# Altium schematic symbol library jlcpcb_2025_04_ferrites_extended_1206.schlib: 308 symbols (part 5 of 6)
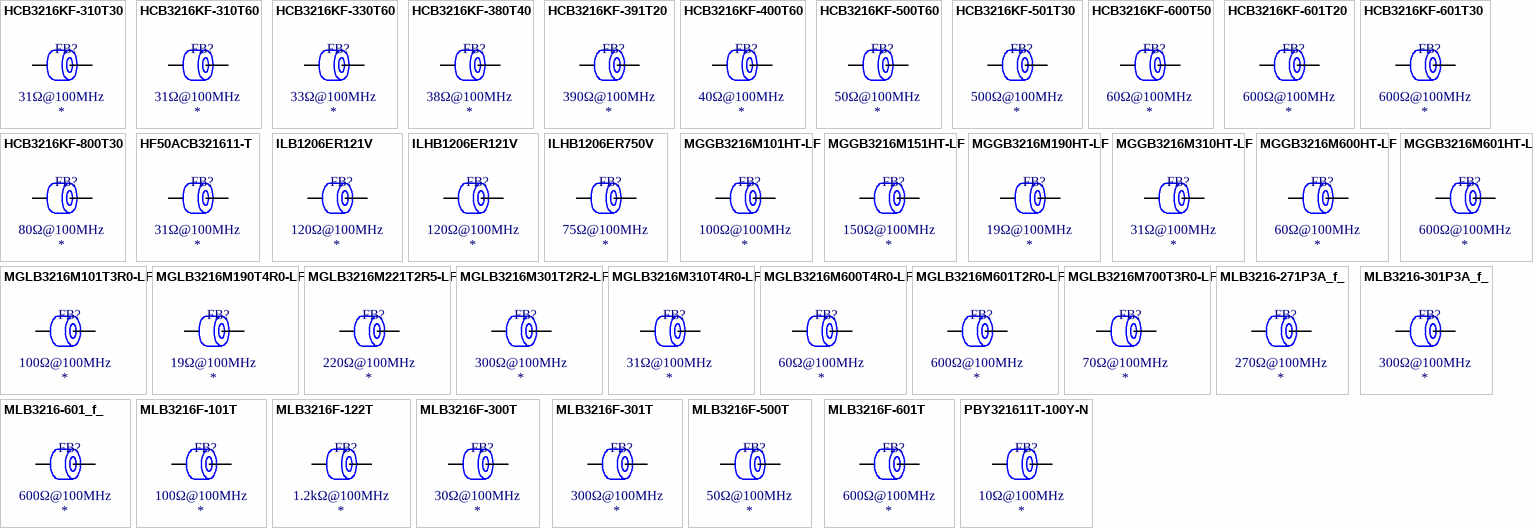
[diagram p11: symbols HCB3216KF-310T30 to PBY321611T-100Y-N]

## MGGB3216M601HT-LF
designator FB?  Impedance @ Frequency: 600Ω@100MHz
Ferrite, 600Ω@100MHz, ±25%, 0.3Ω, 600mA, SMD 1206; Manufacturer: microgate; Manufacturer Part Number: MGGB3216M601HT-LF; Package Size: 1206; JLCPCB Basic Part: No; JLCPCB Part Number: C281191; Supplier 1: LCSC; Category: Ferrite Beads; Supplier Part Number 1: C281191; Tolerance: ±25%; Rated Current: 600mA; DC Resistance: 0.3Ω; RoHS: Yes; ComponentLink1Description: Datasheet; ComponentLink1URL: https://wmsc.lcsc.com/wmsc/upload/file/pdf/v2/lcsc/2304140030_microgate-MGGB3216M601HT-LF_C281191.pdf; ComponentLink2Description: JLCPCB Part URL; ComponentLink2URL: https://jlcpcb.com/partdetail/C281191; ComponentLink3Description: LCSC Part URL; ComponentLink3URL: https://lcsc.com/product-detail/Ferrite-Beads_microgate-microgate-MGGB3216M601HT-LF_C281191.html
footprint FB-1206 (1206 (3216M) Ferrite)
pins: 1, 2

## MGLB3216M101T3R0-LF
designator FB?  Impedance @ Frequency: 100Ω@100MHz
Ferrite, 100Ω@100MHz, ±25%, 3A, SMD 1206; Manufacturer: microgate; Manufacturer Part Number: MGLB3216M101T3R0-LF; Package Size: 1206; JLCPCB Basic Part: No; JLCPCB Part Number: C281221; Supplier 1: LCSC; Category: Ferrite Beads; Supplier Part Number 1: C281221; Tolerance: ±25%; Rated Current: 3A; RoHS: Yes; ComponentLink1Description: Datasheet; ComponentLink1URL: https://wmsc.lcsc.com/wmsc/upload/file/pdf/v2/lcsc/2304140030_microgate-MGLB3216M101T3R0-LF_C281221.pdf; ComponentLink2Description: JLCPCB Part URL; ComponentLink2URL: https://jlcpcb.com/partdetail/C281221; ComponentLink3Description: LCSC Part URL; ComponentLink3URL: https://lcsc.com/product-detail/Ferrite-Beads_microgate-microgate-MGLB3216M101T3R0-LF_C281221.html
pins: 1, 2

## MGLB3216M190T4R0-LF
designator FB?  Impedance @ Frequency: 19Ω@100MHz
Ferrite, 19Ω@100MHz, ±25%, 20mΩ, 4A, SMD 1206; Manufacturer: microgate; Manufacturer Part Number: MGLB3216M190T4R0-LF; Package Size: 1206; JLCPCB Basic Part: No; JLCPCB Part Number: C281227; Supplier 1: LCSC; Category: Ferrite Beads; Supplier Part Number 1: C281227; Tolerance: ±25%; Rated Current: 4A; DC Resistance: 20mΩ; RoHS: Yes; ComponentLink1Description: Datasheet; ComponentLink1URL: https://wmsc.lcsc.com/wmsc/upload/file/pdf/v2/lcsc/2304140030_microgate-MGLB3216M190T4R0-LF_C281227.pdf; ComponentLink2Description: JLCPCB Part URL; ComponentLink2URL: https://jlcpcb.com/partdetail/C281227; ComponentLink3Description: LCSC Part URL; ComponentLink3URL: https://lcsc.com/product-detail/Ferrite-Beads_microgate-microgate-MGLB3216M190T4R0-LF_C281227.html
footprint FB-1206 (1206 (3216M) Ferrite)
pins: 1, 2

## MGLB3216M221T2R5-LF
designator FB?  Impedance @ Frequency: 220Ω@100MHz
Ferrite, 220Ω@100MHz, ±25%, 100mΩ, 2.5A, SMD 1206; Manufacturer: microgate; Manufacturer Part Number: MGLB3216M221T2R5-LF; Package Size: 1206; JLCPCB Basic Part: No; JLCPCB Part Number: C281229; Supplier 1: LCSC; Category: Ferrite Beads; Supplier Part Number 1: C281229; Tolerance: ±25%; Rated Current: 2.5A; DC Resistance: 100mΩ; RoHS: Yes; ComponentLink1Description: Datasheet; ComponentLink1URL: https://wmsc.lcsc.com/wmsc/upload/file/pdf/v2/lcsc/2304140030_microgate-MGLB3216M221T2R5-LF_C281229.pdf; ComponentLink2Description: JLCPCB Part URL; ComponentLink2URL: https://jlcpcb.com/partdetail/C281229; ComponentLink3Description: LCSC Part URL; ComponentLink3URL: https://lcsc.com/product-detail/Ferrite-Beads_microgate-microgate-MGLB3216M221T2R5-LF_C281229.html
footprint FB-1206 (1206 (3216M) Ferrite)
pins: 1, 2

## MGLB3216M301T2R2-LF
designator FB?  Impedance @ Frequency: 300Ω@100MHz
Ferrite, 300Ω@100MHz, ±25%, 150mΩ, 2.2A, SMD 1206; Manufacturer: microgate; Manufacturer Part Number: MGLB3216M301T2R2-LF; Package Size: 1206; JLCPCB Basic Part: No; JLCPCB Part Number: C281231; Supplier 1: LCSC; Category: Ferrite Beads; Supplier Part Number 1: C281231; Tolerance: ±25%; Rated Current: 2.2A; DC Resistance: 150mΩ; RoHS: Yes; ComponentLink1Description: Datasheet; ComponentLink1URL: https://wmsc.lcsc.com/wmsc/upload/file/pdf/v2/lcsc/2304140030_microgate-MGLB3216M301T2R2-LF_C281231.pdf; ComponentLink2Description: JLCPCB Part URL; ComponentLink2URL: https://jlcpcb.com/partdetail/C281231; ComponentLink3Description: LCSC Part URL; ComponentLink3URL: https://lcsc.com/product-detail/Ferrite-Beads_microgate-microgate-MGLB3216M301T2R2-LF_C281231.html
footprint FB-1206 (1206 (3216M) Ferrite)
pins: 1, 2

## MGLB3216M310T4R0-LF
designator FB?  Impedance @ Frequency: 31Ω@100MHz
Ferrite, 31Ω@100MHz, ±25%, 20mΩ, 4A, SMD 1206; Manufacturer: microgate; Manufacturer Part Number: MGLB3216M310T4R0-LF; Package Size: 1206; JLCPCB Basic Part: No; JLCPCB Part Number: C281232; Supplier 1: LCSC; Category: Ferrite Beads; Supplier Part Number 1: C281232; Tolerance: ±25%; Rated Current: 4A; DC Resistance: 20mΩ; RoHS: Yes; ComponentLink1Description: Datasheet; ComponentLink1URL: https://wmsc.lcsc.com/wmsc/upload/file/pdf/v2/lcsc/2304140030_microgate-MGLB3216M310T4R0-LF_C281232.pdf; ComponentLink2Description: JLCPCB Part URL; ComponentLink2URL: https://jlcpcb.com/partdetail/C281232; ComponentLink3Description: LCSC Part URL; ComponentLink3URL: https://lcsc.com/product-detail/Ferrite-Beads_microgate-microgate-MGLB3216M310T4R0-LF_C281232.html
footprint FB-1206 (1206 (3216M) Ferrite)
pins: 1, 2

## MGLB3216M600T4R0-LF
designator FB?  Impedance @ Frequency: 60Ω@100MHz
Ferrite, 60Ω@100MHz, ±25%, 4A, SMD 1206; Manufacturer: microgate; Manufacturer Part Number: MGLB3216M600T4R0-LF; Package Size: 1206; JLCPCB Basic Part: No; JLCPCB Part Number: C281233; Supplier 1: LCSC; Category: Ferrite Beads; Supplier Part Number 1: C281233; Tolerance: ±25%; Rated Current: 4A; RoHS: Yes; ComponentLink1Description: Datasheet; ComponentLink1URL: https://wmsc.lcsc.com/wmsc/upload/file/pdf/v2/lcsc/2304140030_microgate-MGLB3216M600T4R0-LF_C281233.pdf; ComponentLink2Description: JLCPCB Part URL; ComponentLink2URL: https://jlcpcb.com/partdetail/C281233; ComponentLink3Description: LCSC Part URL; ComponentLink3URL: https://lcsc.com/product-detail/Ferrite-Beads_microgate-microgate-MGLB3216M600T4R0-LF_C281233.html
pins: 1, 2

## MGLB3216M601T2R0-LF
designator FB?  Impedance @ Frequency: 600Ω@100MHz
Ferrite, 600Ω@100MHz, ±25%, 2A, SMD 1206; Manufacturer: microgate; Manufacturer Part Number: MGLB3216M601T2R0-LF; Package Size: 1206; JLCPCB Basic Part: No; JLCPCB Part Number: C281234; Supplier 1: LCSC; Category: Ferrite Beads; Supplier Part Number 1: C281234; Tolerance: ±25%; Rated Current: 2A; RoHS: Yes; ComponentLink1Description: Datasheet; ComponentLink1URL: https://wmsc.lcsc.com/wmsc/upload/file/pdf/v2/lcsc/2304140030_microgate-MGLB3216M601T2R0-LF_C281234.pdf; ComponentLink2Description: JLCPCB Part URL; ComponentLink2URL: https://jlcpcb.com/partdetail/C281234; ComponentLink3Description: LCSC Part URL; ComponentLink3URL: https://lcsc.com/product-detail/Ferrite-Beads_microgate-microgate-MGLB3216M601T2R0-LF_C281234.html
pins: 1, 2

## MGLB3216M700T3R0-LF
designator FB?  Impedance @ Frequency: 70Ω@100MHz
Ferrite, 70Ω@100MHz, ±25%, 50mΩ, 3A, SMD 1206; Manufacturer: microgate; Manufacturer Part Number: MGLB3216M700T3R0-LF; Package Size: 1206; JLCPCB Basic Part: No; JLCPCB Part Number: C281235; Supplier 1: LCSC; Category: Ferrite Beads; Supplier Part Number 1: C281235; Tolerance: ±25%; Rated Current: 3A; DC Resistance: 50mΩ; RoHS: Yes; ComponentLink1Description: Datasheet; ComponentLink1URL: https://wmsc.lcsc.com/wmsc/upload/file/pdf/v2/lcsc/2304140030_microgate-MGLB3216M700T3R0-LF_C281235.pdf; ComponentLink2Description: JLCPCB Part URL; ComponentLink2URL: https://jlcpcb.com/partdetail/C281235; ComponentLink3Description: LCSC Part URL; ComponentLink3URL: https://lcsc.com/product-detail/Ferrite-Beads_microgate-microgate-MGLB3216M700T3R0-LF_C281235.html
footprint FB-1206 (1206 (3216M) Ferrite)
pins: 1, 2

## MLB3216-271P3A_f_
designator FB?  Impedance @ Frequency: 270Ω@100MHz
Ferrite, 270Ω@100MHz, ±25%, 200mΩ, 3A, SMD 1206; Manufacturer: Meled; Manufacturer Part Number: MLB3216-271P3A(f); Package Size: 1206; JLCPCB Basic Part: No; JLCPCB Part Number: C49049; Supplier 1: LCSC; Category: Ferrite Beads; Supplier Part Number 1: C49049; Tolerance: ±25%; Rated Current: 3A; DC Resistance: 200mΩ; RoHS: Yes; ComponentLink1Description: Datasheet; ComponentLink1URL: https://wmsc.lcsc.com/wmsc/upload/file/pdf/v2/lcsc/1811141732_MetalLions-MLB3216-271P3A-f_C49049.pdf; ComponentLink2Description: JLCPCB Part URL; ComponentLink2URL: https://jlcpcb.com/partdetail/C49049; ComponentLink3Description: LCSC Part URL; ComponentLink3URL: https://lcsc.com/product-detail/Ferrite-Beads_Meled-Meled-MLB3216-271P3Af_C49049.html
footprint FB-1206 (1206 (3216M) Ferrite)
pins: 1, 2

## MLB3216-301P3A_f_
designator FB?  Impedance @ Frequency: 300Ω@100MHz
Ferrite, 300Ω@100MHz, ±25%, 120mΩ, 3A, SMD 1206; Manufacturer: Meled; Manufacturer Part Number: MLB3216-301P3A(f); Package Size: 1206; JLCPCB Basic Part: No; JLCPCB Part Number: C29107; Supplier 1: LCSC; Category: Ferrite Beads; Supplier Part Number 1: C29107; Tolerance: ±25%; Rated Current: 3A; DC Resistance: 120mΩ; RoHS: Yes; ComponentLink1Description: Datasheet; ComponentLink1URL: https://wmsc.lcsc.com/wmsc/upload/file/pdf/v2/lcsc/1811141711_MetalLions-MLB3216-301P3A-f_C29107.pdf; ComponentLink2Description: JLCPCB Part URL; ComponentLink2URL: https://jlcpcb.com/partdetail/C29107; ComponentLink3Description: LCSC Part URL; ComponentLink3URL: https://lcsc.com/product-detail/Ferrite-Beads_Meled-Meled-MLB3216-301P3Af_C29107.html
footprint FB-1206 (1206 (3216M) Ferrite)
pins: 1, 2

## MLB3216-601_f_
designator FB?  Impedance @ Frequency: 600Ω@100MHz
Ferrite, 600Ω@100MHz, ±25%, 300mΩ, 500mA, SMD 1206; Manufacturer: Meled; Manufacturer Part Number: MLB3216-601(f); Package Size: 1206; JLCPCB Basic Part: No; JLCPCB Part Number: C1025; Supplier 1: LCSC; Category: Ferrite Beads; Supplier Part Number 1: C1025; Tolerance: ±25%; Rated Current: 500mA; DC Resistance: 300mΩ; RoHS: Yes; ComponentLink1Description: Datasheet; ComponentLink1URL: https://wmsc.lcsc.com/wmsc/upload/file/pdf/v2/lcsc/1809192211_MetalLions-MLB3216-601-f_C1025.pdf; ComponentLink2Description: JLCPCB Part URL; ComponentLink2URL: https://jlcpcb.com/partdetail/C1025; ComponentLink3Description: LCSC Part URL; ComponentLink3URL: https://lcsc.com/product-detail/Ferrite-Beads_Meled-Meled-MLB3216-601f_C1025.html
footprint FB-1206 (1206 (3216M) Ferrite)
pins: 1, 2

## MLB3216F-101T
designator FB?  Impedance @ Frequency: 100Ω@100MHz
Ferrite, 100Ω@100MHz, ±25%, SMD 1206; Manufacturer: Meled; Manufacturer Part Number: MLB3216F-101T; Package Size: 1206; JLCPCB Basic Part: No; JLCPCB Part Number: C2844611; Supplier 1: LCSC; Category: Ferrite Beads; Supplier Part Number 1: C2844611; Tolerance: ±25%; RoHS: Yes; ComponentLink1Description: Datasheet; ComponentLink1URL: https://wmsc.lcsc.com/wmsc/upload/file/pdf/v2/lcsc/2306021145_MetalLions-MLB3216F-101T_C2844611.pdf; ComponentLink2Description: JLCPCB Part URL; ComponentLink2URL: https://jlcpcb.com/partdetail/C2844611; ComponentLink3Description: LCSC Part URL; ComponentLink3URL: https://lcsc.com/product-detail/Ferrite-Beads_MetalLions-MetalLions-MLB3216F-101T_C2844611.html
pins: 1, 2

## MLB3216F-122T
designator FB?  Impedance @ Frequency: 1.2kΩ@100MHz
Ferrite, 1.2kΩ@100MHz, ±25%, 600mΩ, 300mA, SMD 1206; Manufacturer: Meled; Manufacturer Part Number: MLB3216F-122T; Package Size: 1206; JLCPCB Basic Part: No; JLCPCB Part Number: C2844623; Supplier 1: LCSC; Category: Ferrite Beads; Supplier Part Number 1: C2844623; Tolerance: ±25%; Rated Current: 300mA; DC Resistance: 600mΩ; RoHS: Yes; ComponentLink1Description: Datasheet; ComponentLink1URL: https://wmsc.lcsc.com/wmsc/upload/file/pdf/v2/lcsc/2306021145_MetalLions-MLB3216F-122T_C2844623.pdf; ComponentLink2Description: JLCPCB Part URL; ComponentLink2URL: https://jlcpcb.com/partdetail/C2844623; ComponentLink3Description: LCSC Part URL; ComponentLink3URL: https://lcsc.com/product-detail/Ferrite-Beads_MetalLions-MetalLions-MLB3216F-122T_C2844623.html
footprint FB-1206 (1206 (3216M) Ferrite)
pins: 1, 2

## MLB3216F-300T
designator FB?  Impedance @ Frequency: 30Ω@100MHz
Ferrite, 30Ω@100MHz, ±25%, SMD 1206; Manufacturer: Meled; Manufacturer Part Number: MLB3216F-300T; Package Size: 1206; JLCPCB Basic Part: No; JLCPCB Part Number: C2844605; Supplier 1: LCSC; Category: Ferrite Beads; Supplier Part Number 1: C2844605; Tolerance: ±25%; RoHS: Yes; ComponentLink1Description: Datasheet; ComponentLink1URL: https://wmsc.lcsc.com/wmsc/upload/file/pdf/v2/lcsc/2306021144_MetalLions-MLB3216F-300T_C2844605.pdf; ComponentLink2Description: JLCPCB Part URL; ComponentLink2URL: https://jlcpcb.com/partdetail/C2844605; ComponentLink3Description: LCSC Part URL; ComponentLink3URL: https://lcsc.com/product-detail/Ferrite-Beads_MetalLions-MetalLions-MLB3216F-300T_C2844605.html
pins: 1, 2

## MLB3216F-301T
designator FB?  Impedance @ Frequency: 300Ω@100MHz
Ferrite, 300Ω@100MHz, ±25%, 200mΩ, 600mA, SMD 1206; Manufacturer: Meled; Manufacturer Part Number: MLB3216F-301T; Package Size: 1206; JLCPCB Basic Part: No; JLCPCB Part Number: C2844616; Supplier 1: LCSC; Category: Ferrite Beads; Supplier Part Number 1: C2844616; Tolerance: ±25%; Rated Current: 600mA; DC Resistance: 200mΩ; RoHS: Yes; ComponentLink1Description: Datasheet; ComponentLink1URL: https://wmsc.lcsc.com/wmsc/upload/file/pdf/v2/lcsc/2306021145_MetalLions-MLB3216F-301T_C2844616.pdf; ComponentLink2Description: JLCPCB Part URL; ComponentLink2URL: https://jlcpcb.com/partdetail/C2844616; ComponentLink3Description: LCSC Part URL; ComponentLink3URL: https://lcsc.com/product-detail/Ferrite-Beads_MetalLions-MetalLions-MLB3216F-301T_C2844616.html
footprint FB-1206 (1206 (3216M) Ferrite)
pins: 1, 2

## MLB3216F-500T
designator FB?  Impedance @ Frequency: 50Ω@100MHz
Ferrite, 50Ω@100MHz, ±25%, SMD 1206; Manufacturer: Meled; Manufacturer Part Number: MLB3216F-500T; Package Size: 1206; JLCPCB Basic Part: No; JLCPCB Part Number: C2844607; Supplier 1: LCSC; Category: Ferrite Beads; Supplier Part Number 1: C2844607; Tolerance: ±25%; RoHS: Yes; ComponentLink1Description: Datasheet; ComponentLink1URL: https://wmsc.lcsc.com/wmsc/upload/file/pdf/v2/lcsc/2306021144_MetalLions-MLB3216F-500T_C2844607.pdf; ComponentLink2Description: JLCPCB Part URL; ComponentLink2URL: https://jlcpcb.com/partdetail/C2844607; ComponentLink3Description: LCSC Part URL; ComponentLink3URL: https://lcsc.com/product-detail/Ferrite-Beads_MetalLions-MetalLions-MLB3216F-500T_C2844607.html
pins: 1, 2

## MLB3216F-601T
designator FB?  Impedance @ Frequency: 600Ω@100MHz
Ferrite, 600Ω@100MHz, ±25%, 0.3Ω, 600mA, SMD 1206; Manufacturer: Meled; Manufacturer Part Number: MLB3216F-601T; Package Size: 1206; JLCPCB Basic Part: No; JLCPCB Part Number: C2844620; Supplier 1: LCSC; Category: Ferrite Beads; Supplier Part Number 1: C2844620; Tolerance: ±25%; Rated Current: 600mA; DC Resistance: 0.3Ω; RoHS: Yes; ComponentLink1Description: Datasheet; ComponentLink1URL: https://wmsc.lcsc.com/wmsc/upload/file/pdf/v2/lcsc/2306021145_MetalLions-MLB3216F-601T_C2844620.pdf; ComponentLink2Description: JLCPCB Part URL; ComponentLink2URL: https://jlcpcb.com/partdetail/C2844620; ComponentLink3Description: LCSC Part URL; ComponentLink3URL: https://lcsc.com/product-detail/Ferrite-Beads_MetalLions-MetalLions-MLB3216F-601T_C2844620.html
footprint FB-1206 (1206 (3216M) Ferrite)
pins: 1, 2

## PBY321611T-100Y-N
designator FB?  Impedance @ Frequency: 10Ω@100MHz
Ferrite, 10Ω@100MHz, ±25%, 0.015Ω, 6000mA, SMD 1206; Manufacturer: Chilisin Elec; Manufacturer Part Number: PBY321611T-100Y-N; Package Size: 1206; JLCPCB Basic Part: No; JLCPCB Part Number: C142052; Supplier 1: LCSC; Category: Ferrite Beads; Supplier Part Number 1: C142052; Tolerance: ±25%; Rated Current: 6000mA; DC Resistance: 0.015Ω; RoHS: Yes; ComponentLink1Description: Datasheet; ComponentLink1URL: https://wmsc.lcsc.com/wmsc/upload/file/pdf/v2/lcsc/2304140030_Chilisin-Elec-PBY321611T-100Y-N_C142052.pdf; ComponentLink2Description: JLCPCB Part URL; ComponentLink2URL: https://jlcpcb.com/partdetail/C142052; ComponentLink3Description: LCSC Part URL; ComponentLink3URL: https://lcsc.com/product-detail/Ferrite-Beads_Chilisin-Elec-Chilisin-Elec-PBY321611T-100Y-N_C142052.html
footprint FB-1206 (1206 (3216M) Ferrite)
pins: 1, 2

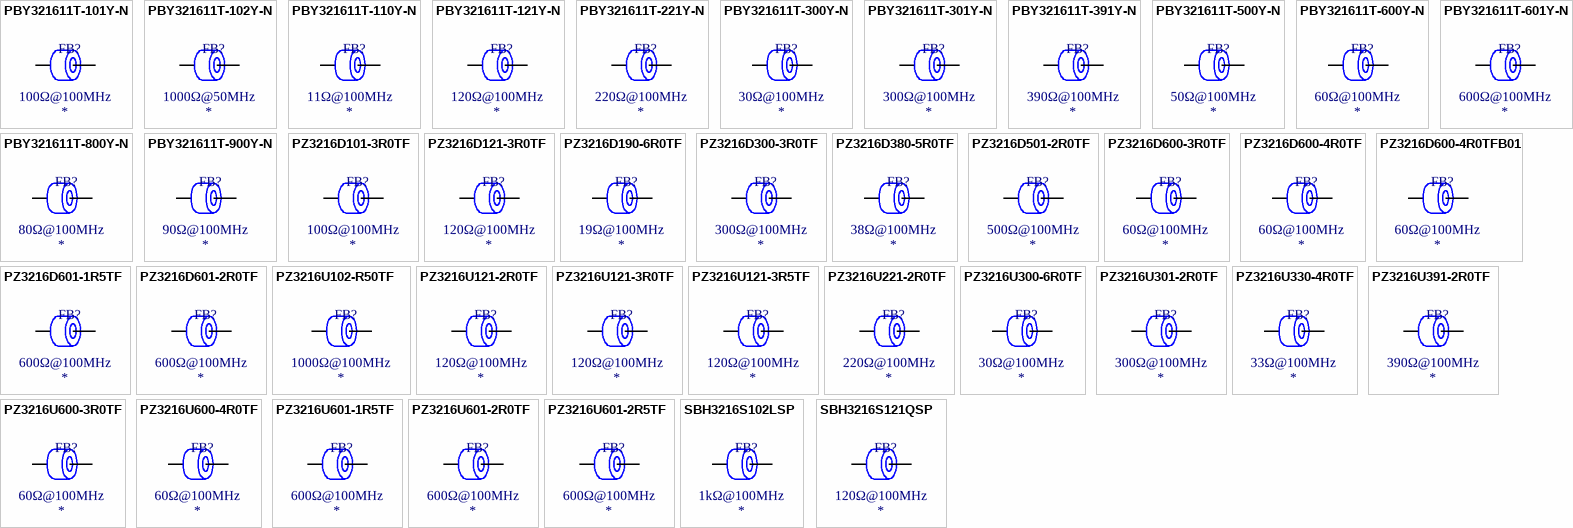
[diagram p6: symbols PBY321611T-101Y-N to SBH3216S121QSP]

## PBY321611T-101Y-N
designator FB?  Impedance @ Frequency: 100Ω@100MHz
Ferrite, 100Ω@100MHz, ±25%, 0.03Ω, 3000mA, SMD 1206; Manufacturer: Chilisin Elec; Manufacturer Part Number: PBY321611T-101Y-N; Package Size: 1206; JLCPCB Basic Part: No; JLCPCB Part Number: C142051; Supplier 1: LCSC; Category: Ferrite Beads; Supplier Part Number 1: C142051; Tolerance: ±25%; Rated Current: 3000mA; DC Resistance: 0.03Ω; RoHS: Yes; ComponentLink1Description: Datasheet; ComponentLink1URL: https://wmsc.lcsc.com/wmsc/upload/file/pdf/v2/lcsc/2304140030_Chilisin-Elec-PBY321611T-101Y-N_C142051.pdf; ComponentLink2Description: JLCPCB Part URL; ComponentLink2URL: https://jlcpcb.com/partdetail/C142051; ComponentLink3Description: LCSC Part URL; ComponentLink3URL: https://lcsc.com/product-detail/Ferrite-Beads_Chilisin-Elec-Chilisin-Elec-PBY321611T-101Y-N_C142051.html
footprint FB-1206 (1206 (3216M) Ferrite)
pins: 1, 2

## PBY321611T-102Y-N
designator FB?  Impedance @ Frequency: 1000Ω@50MHz
Ferrite, 1000Ω@50MHz, ±25%, 0.15Ω, 1200mA, SMD 1206; Manufacturer: Chilisin Elec; Manufacturer Part Number: PBY321611T-102Y-N; Package Size: 1206; JLCPCB Basic Part: No; JLCPCB Part Number: C142050; Supplier 1: LCSC; Category: Ferrite Beads; Supplier Part Number 1: C142050; Tolerance: ±25%; Rated Current: 1200mA; DC Resistance: 0.15Ω; RoHS: Yes; ComponentLink1Description: Datasheet; ComponentLink1URL: https://wmsc.lcsc.com/wmsc/upload/file/pdf/v2/lcsc/2304140030_Chilisin-Elec-PBY321611T-102Y-N_C142050.pdf; ComponentLink2Description: JLCPCB Part URL; ComponentLink2URL: https://jlcpcb.com/partdetail/C142050; ComponentLink3Description: LCSC Part URL; ComponentLink3URL: https://lcsc.com/product-detail/Ferrite-Beads_Chilisin-Elec-Chilisin-Elec-PBY321611T-102Y-N_C142050.html
footprint FB-1206 (1206 (3216M) Ferrite)
pins: 1, 2

## PBY321611T-110Y-N
designator FB?  Impedance @ Frequency: 11Ω@100MHz
Ferrite, 11Ω@100MHz, ±25%, SMD 1206; Manufacturer: Chilisin Elec; Manufacturer Part Number: PBY321611T-110Y-N; Package Size: 1206; JLCPCB Basic Part: No; JLCPCB Part Number: C365829; Supplier 1: LCSC; Category: Ferrite Beads; Supplier Part Number 1: C365829; Tolerance: ±25%; RoHS: Yes; ComponentLink1Description: Datasheet; ComponentLink1URL: https://wmsc.lcsc.com/wmsc/upload/file/pdf/v2/lcsc/2304140030_Chilisin-Elec-PBY321611T-110Y-N_C365829.pdf; ComponentLink2Description: JLCPCB Part URL; ComponentLink2URL: https://jlcpcb.com/partdetail/C365829; ComponentLink3Description: LCSC Part URL; ComponentLink3URL: https://lcsc.com/product-detail/Ferrite-Beads_Chilisin-Elec-Chilisin-Elec-PBY321611T-110Y-N_C365829.html
pins: 1, 2

## PBY321611T-121Y-N
designator FB?  Impedance @ Frequency: 120Ω@100MHz
Ferrite, 120Ω@100MHz, ±25%, 0.03Ω, 3000mA, SMD 1206; Manufacturer: Chilisin Elec; Manufacturer Part Number: PBY321611T-121Y-N; Package Size: 1206; JLCPCB Basic Part: No; JLCPCB Part Number: C142049; Supplier 1: LCSC; Category: Ferrite Beads; Supplier Part Number 1: C142049; Tolerance: ±25%; Rated Current: 3000mA; DC Resistance: 0.03Ω; RoHS: Yes; ComponentLink1Description: Datasheet; ComponentLink1URL: https://wmsc.lcsc.com/wmsc/upload/file/pdf/v2/lcsc/2304140030_Chilisin-Elec-PBY321611T-121Y-N_C142049.pdf; ComponentLink2Description: JLCPCB Part URL; ComponentLink2URL: https://jlcpcb.com/partdetail/C142049; ComponentLink3Description: LCSC Part URL; ComponentLink3URL: https://lcsc.com/product-detail/Ferrite-Beads_Chilisin-Elec-Chilisin-Elec-PBY321611T-121Y-N_C142049.html
footprint FB-1206 (1206 (3216M) Ferrite)
pins: 1, 2

## PBY321611T-221Y-N
designator FB?  Impedance @ Frequency: 220Ω@100MHz
Ferrite, 220Ω@100MHz, ±25%, 0.05Ω, 2000mA, SMD 1206; Manufacturer: Chilisin Elec; Manufacturer Part Number: PBY321611T-221Y-N; Package Size: 1206; JLCPCB Basic Part: No; JLCPCB Part Number: C142048; Supplier 1: LCSC; Category: Ferrite Beads; Supplier Part Number 1: C142048; Tolerance: ±25%; Rated Current: 2000mA; DC Resistance: 0.05Ω; RoHS: Yes; ComponentLink1Description: Datasheet; ComponentLink1URL: https://wmsc.lcsc.com/wmsc/upload/file/pdf/v2/lcsc/2304140030_Chilisin-Elec-PBY321611T-221Y-N_C142048.pdf; ComponentLink2Description: JLCPCB Part URL; ComponentLink2URL: https://jlcpcb.com/partdetail/C142048; ComponentLink3Description: LCSC Part URL; ComponentLink3URL: https://lcsc.com/product-detail/Ferrite-Beads_Chilisin-Elec-Chilisin-Elec-PBY321611T-221Y-N_C142048.html
footprint FB-1206 (1206 (3216M) Ferrite)
pins: 1, 2

## PBY321611T-300Y-N
designator FB?  Impedance @ Frequency: 30Ω@100MHz
Ferrite, 30Ω@100MHz, ±25%, 0.015Ω, 4000mA, SMD 1206; Manufacturer: Chilisin Elec; Manufacturer Part Number: PBY321611T-300Y-N; Package Size: 1206; JLCPCB Basic Part: No; JLCPCB Part Number: C142047; Supplier 1: LCSC; Category: Ferrite Beads; Supplier Part Number 1: C142047; Tolerance: ±25%; Rated Current: 4000mA; DC Resistance: 0.015Ω; RoHS: Yes; ComponentLink1Description: Datasheet; ComponentLink1URL: https://wmsc.lcsc.com/wmsc/upload/file/pdf/v2/lcsc/2304140030_Chilisin-Elec-PBY321611T-300Y-N_C142047.pdf; ComponentLink2Description: JLCPCB Part URL; ComponentLink2URL: https://jlcpcb.com/partdetail/C142047; ComponentLink3Description: LCSC Part URL; ComponentLink3URL: https://lcsc.com/product-detail/Ferrite-Beads_Chilisin-Elec-Chilisin-Elec-PBY321611T-300Y-N_C142047.html
footprint FB-1206 (1206 (3216M) Ferrite)
pins: 1, 2

## PBY321611T-301Y-N
designator FB?  Impedance @ Frequency: 300Ω@100MHz
Ferrite, 300Ω@100MHz, ±25%, 0.06Ω, 2000mA, SMD 1206; Manufacturer: Chilisin Elec; Manufacturer Part Number: PBY321611T-301Y-N; Package Size: 1206; JLCPCB Basic Part: No; JLCPCB Part Number: C142046; Supplier 1: LCSC; Category: Ferrite Beads; Supplier Part Number 1: C142046; Tolerance: ±25%; Rated Current: 2000mA; DC Resistance: 0.06Ω; RoHS: Yes; ComponentLink1Description: Datasheet; ComponentLink1URL: https://wmsc.lcsc.com/wmsc/upload/file/pdf/v2/lcsc/2304140030_Chilisin-Elec-PBY321611T-301Y-N_C142046.pdf; ComponentLink2Description: JLCPCB Part URL; ComponentLink2URL: https://jlcpcb.com/partdetail/C142046; ComponentLink3Description: LCSC Part URL; ComponentLink3URL: https://lcsc.com/product-detail/Ferrite-Beads_Chilisin-Elec-Chilisin-Elec-PBY321611T-301Y-N_C142046.html
footprint FB-1206 (1206 (3216M) Ferrite)
pins: 1, 2

## PBY321611T-391Y-N
designator FB?  Impedance @ Frequency: 390Ω@100MHz
Ferrite, 390Ω@100MHz, ±25%, SMD 1206; Manufacturer: Chilisin Elec; Manufacturer Part Number: PBY321611T-391Y-N; Package Size: 1206; JLCPCB Basic Part: No; JLCPCB Part Number: C280679; Supplier 1: LCSC; Category: Ferrite Beads; Supplier Part Number 1: C280679; Tolerance: ±25%; RoHS: Yes; ComponentLink1Description: Datasheet; ComponentLink1URL: https://wmsc.lcsc.com/wmsc/upload/file/pdf/v2/lcsc/2304140030_Chilisin-Elec-PBY321611T-391Y-N_C280679.pdf; ComponentLink2Description: JLCPCB Part URL; ComponentLink2URL: https://jlcpcb.com/partdetail/C280679; ComponentLink3Description: LCSC Part URL; ComponentLink3URL: https://lcsc.com/product-detail/Ferrite-Beads_Chilisin-Elec-Chilisin-Elec-PBY321611T-391Y-N_C280679.html
pins: 1, 2

## PBY321611T-500Y-N
designator FB?  Impedance @ Frequency: 50Ω@100MHz
Ferrite, 50Ω@100MHz, ±25%, SMD 1206; Manufacturer: Chilisin Elec; Manufacturer Part Number: PBY321611T-500Y-N; Package Size: 1206; JLCPCB Basic Part: No; JLCPCB Part Number: C142044; Supplier 1: LCSC; Category: Ferrite Beads; Supplier Part Number 1: C142044; Tolerance: ±25%; RoHS: Yes; ComponentLink1Description: Datasheet; ComponentLink1URL: https://wmsc.lcsc.com/wmsc/upload/file/pdf/v2/lcsc/2304140030_Chilisin-Elec-PBY321611T-500Y-N_C142044.pdf; ComponentLink2Description: JLCPCB Part URL; ComponentLink2URL: https://jlcpcb.com/partdetail/C142044; ComponentLink3Description: LCSC Part URL; ComponentLink3URL: https://lcsc.com/product-detail/Ferrite-Beads_Chilisin-Elec-Chilisin-Elec-PBY321611T-500Y-N_C142044.html
pins: 1, 2

## PBY321611T-600Y-N
designator FB?  Impedance @ Frequency: 60Ω@100MHz
Ferrite, 60Ω@100MHz, ±25%, 0.02Ω, 4000mA, SMD 1206; Manufacturer: Chilisin Elec; Manufacturer Part Number: PBY321611T-600Y-N; Package Size: 1206; JLCPCB Basic Part: No; JLCPCB Part Number: C142042; Supplier 1: LCSC; Category: Ferrite Beads; Supplier Part Number 1: C142042; Tolerance: ±25%; Rated Current: 4000mA; DC Resistance: 0.02Ω; RoHS: Yes; ComponentLink1Description: Datasheet; ComponentLink1URL: https://wmsc.lcsc.com/wmsc/upload/file/pdf/v2/lcsc/2304140030_Chilisin-Elec-PBY321611T-600Y-N_C142042.pdf; ComponentLink2Description: JLCPCB Part URL; ComponentLink2URL: https://jlcpcb.com/partdetail/C142042; ComponentLink3Description: LCSC Part URL; ComponentLink3URL: https://lcsc.com/product-detail/Ferrite-Beads_Chilisin-Elec-Chilisin-Elec-PBY321611T-600Y-N_C142042.html
footprint FB-1206 (1206 (3216M) Ferrite)
pins: 1, 2

## PBY321611T-601Y-N
designator FB?  Impedance @ Frequency: 600Ω@100MHz
Ferrite, 600Ω@100MHz, ±25%, 0.1Ω, 2000mA, SMD 1206; Manufacturer: Chilisin Elec; Manufacturer Part Number: PBY321611T-601Y-N; Package Size: 1206; JLCPCB Basic Part: No; JLCPCB Part Number: C108305; Supplier 1: LCSC; Category: Ferrite Beads; Supplier Part Number 1: C108305; Tolerance: ±25%; Rated Current: 2000mA; DC Resistance: 0.1Ω; RoHS: Yes; ComponentLink1Description: Datasheet; ComponentLink1URL: https://wmsc.lcsc.com/wmsc/upload/file/pdf/v2/lcsc/2304140030_Chilisin-Elec-PBY321611T-601Y-N_C108305.pdf; ComponentLink2Description: JLCPCB Part URL; ComponentLink2URL: https://jlcpcb.com/partdetail/C108305; ComponentLink3Description: LCSC Part URL; ComponentLink3URL: https://lcsc.com/product-detail/Ferrite-Beads_Chilisin-Elec-Chilisin-Elec-PBY321611T-601Y-N_C108305.html
footprint FB-1206 (1206 (3216M) Ferrite)
pins: 1, 2

## PBY321611T-800Y-N
designator FB?  Impedance @ Frequency: 80Ω@100MHz
Ferrite, 80Ω@100MHz, ±25%, SMD 1206; Manufacturer: Chilisin Elec; Manufacturer Part Number: PBY321611T-800Y-N; Package Size: 1206; JLCPCB Basic Part: No; JLCPCB Part Number: C142041; Supplier 1: LCSC; Category: Ferrite Beads; Supplier Part Number 1: C142041; Tolerance: ±25%; RoHS: Yes; ComponentLink1Description: Datasheet; ComponentLink1URL: https://wmsc.lcsc.com/wmsc/upload/file/pdf/v2/lcsc/2304140030_Chilisin-Elec-PBY321611T-800Y-N_C142041.pdf; ComponentLink2Description: JLCPCB Part URL; ComponentLink2URL: https://jlcpcb.com/partdetail/C142041; ComponentLink3Description: LCSC Part URL; ComponentLink3URL: https://lcsc.com/product-detail/Ferrite-Beads_Chilisin-Elec-Chilisin-Elec-PBY321611T-800Y-N_C142041.html
pins: 1, 2

## PBY321611T-900Y-N
designator FB?  Impedance @ Frequency: 90Ω@100MHz
Ferrite, 90Ω@100MHz, ±25%, SMD 1206; Manufacturer: Chilisin Elec; Manufacturer Part Number: PBY321611T-900Y-N; Package Size: 1206; JLCPCB Basic Part: No; JLCPCB Part Number: C142040; Supplier 1: LCSC; Category: Ferrite Beads; Supplier Part Number 1: C142040; Tolerance: ±25%; RoHS: Yes; ComponentLink1Description: Datasheet; ComponentLink1URL: https://wmsc.lcsc.com/wmsc/upload/file/pdf/v2/lcsc/2304140030_Chilisin-Elec-PBY321611T-900Y-N_C142040.pdf; ComponentLink2Description: JLCPCB Part URL; ComponentLink2URL: https://jlcpcb.com/partdetail/C142040; ComponentLink3Description: LCSC Part URL; ComponentLink3URL: https://lcsc.com/product-detail/Ferrite-Beads_Chilisin-Elec-Chilisin-Elec-PBY321611T-900Y-N_C142040.html
pins: 1, 2

## PZ3216D101-3R0TF
designator FB?  Impedance @ Frequency: 100Ω@100MHz
Ferrite, 100Ω@100MHz, ±25%, 3A, SMD 1206; Manufacturer: Sunlord; Manufacturer Part Number: PZ3216D101-3R0TF; Package Size: 1206; JLCPCB Basic Part: No; JLCPCB Part Number: C370089; Supplier 1: LCSC; Category: Ferrite Beads; Supplier Part Number 1: C370089; Tolerance: ±25%; Rated Current: 3A; RoHS: Yes; ComponentLink1Description: Datasheet; ComponentLink1URL: https://wmsc.lcsc.com/wmsc/upload/file/pdf/v2/lcsc/2310301641_Sunlord-PZ3216D101-3R0TF_C370089.pdf; ComponentLink2Description: JLCPCB Part URL; ComponentLink2URL: https://jlcpcb.com/partdetail/C370089; ComponentLink3Description: LCSC Part URL; ComponentLink3URL: https://lcsc.com/product-detail/Ferrite-Beads_Sunlord-Sunlord-PZ3216D101-3R0TF_C370089.html
pins: 1, 2

## PZ3216D121-3R0TF
designator FB?  Impedance @ Frequency: 120Ω@100MHz
Ferrite, 120Ω@100MHz, ±25%, 0.03Ω, 3000mA, SMD 1206; Manufacturer: Sunlord; Manufacturer Part Number: PZ3216D121-3R0TF; Package Size: 1206; JLCPCB Basic Part: No; JLCPCB Part Number: C98292; Supplier 1: LCSC; Category: Ferrite Beads; Supplier Part Number 1: C98292; Tolerance: ±25%; Rated Current: 3000mA; DC Resistance: 0.03Ω; RoHS: Yes; ComponentLink1Description: Datasheet; ComponentLink1URL: https://wmsc.lcsc.com/wmsc/upload/file/pdf/v2/lcsc/2310301641_Sunlord-PZ3216D121-3R0TF_C98292.pdf; ComponentLink2Description: JLCPCB Part URL; ComponentLink2URL: https://jlcpcb.com/partdetail/C98292; ComponentLink3Description: LCSC Part URL; ComponentLink3URL: https://lcsc.com/product-detail/Ferrite-Beads_Sunlord-Sunlord-PZ3216D121-3R0TF_C98292.html
footprint FB-1206 (1206 (3216M) Ferrite)
pins: 1, 2

## PZ3216D190-6R0TF
designator FB?  Impedance @ Frequency: 19Ω@100MHz
Ferrite, 19Ω@100MHz, ±25%, 0.01Ω, 6000mA, SMD 1206; Manufacturer: Sunlord; Manufacturer Part Number: PZ3216D190-6R0TF; Package Size: 1206; JLCPCB Basic Part: No; JLCPCB Part Number: C317630; Supplier 1: LCSC; Category: Ferrite Beads; Supplier Part Number 1: C317630; Tolerance: ±25%; Rated Current: 6000mA; DC Resistance: 0.01Ω; RoHS: Yes; ComponentLink1Description: Datasheet; ComponentLink1URL: https://wmsc.lcsc.com/wmsc/upload/file/pdf/v2/lcsc/2310301641_Sunlord-PZ3216D190-6R0TF_C317630.pdf; ComponentLink2Description: JLCPCB Part URL; ComponentLink2URL: https://jlcpcb.com/partdetail/C317630; ComponentLink3Description: LCSC Part URL; ComponentLink3URL: https://lcsc.com/product-detail/Ferrite-Beads_Sunlord-Sunlord-PZ3216D190-6R0TF_C317630.html
footprint FB-1206 (1206 (3216M) Ferrite)
pins: 1, 2

## PZ3216D300-3R0TF
designator FB?  Impedance @ Frequency: 300Ω@100MHz
Ferrite, 300Ω@100MHz, ±25%, 3A, SMD 1206; Manufacturer: Sunlord; Manufacturer Part Number: PZ3216D300-3R0TF; Package Size: 1206; JLCPCB Basic Part: No; JLCPCB Part Number: C370090; Supplier 1: LCSC; Category: Ferrite Beads; Supplier Part Number 1: C370090; Tolerance: ±25%; Rated Current: 3A; RoHS: Yes; ComponentLink1Description: Datasheet; ComponentLink1URL: https://wmsc.lcsc.com/wmsc/upload/file/pdf/v2/lcsc/2310301641_Sunlord-PZ3216D300-3R0TF_C370090.pdf; ComponentLink2Description: JLCPCB Part URL; ComponentLink2URL: https://jlcpcb.com/partdetail/C370090; ComponentLink3Description: LCSC Part URL; ComponentLink3URL: https://lcsc.com/product-detail/Ferrite-Beads_Sunlord-Sunlord-PZ3216D300-3R0TF_C370090.html
pins: 1, 2

## PZ3216D380-5R0TF
designator FB?  Impedance @ Frequency: 38Ω@100MHz
Ferrite, 38Ω@100MHz, ±25%, 0.015Ω, 5000mA, SMD 1206; Manufacturer: Sunlord; Manufacturer Part Number: PZ3216D380-5R0TF; Package Size: 1206; JLCPCB Basic Part: No; JLCPCB Part Number: C317631; Supplier 1: LCSC; Category: Ferrite Beads; Supplier Part Number 1: C317631; Tolerance: ±25%; Rated Current: 5000mA; DC Resistance: 0.015Ω; RoHS: Yes; ComponentLink1Description: Datasheet; ComponentLink1URL: https://wmsc.lcsc.com/wmsc/upload/file/pdf/v2/lcsc/2310301641_Sunlord-PZ3216D380-5R0TF_C317631.pdf; ComponentLink2Description: JLCPCB Part URL; ComponentLink2URL: https://jlcpcb.com/partdetail/C317631; ComponentLink3Description: LCSC Part URL; ComponentLink3URL: https://lcsc.com/product-detail/Ferrite-Beads_Sunlord-Sunlord-PZ3216D380-5R0TF_C317631.html
footprint FB-1206 (1206 (3216M) Ferrite)
pins: 1, 2

## PZ3216D501-2R0TF
designator FB?  Impedance @ Frequency: 500Ω@100MHz
Ferrite, 500Ω@100MHz, ±25%, 0.07Ω, 2000mA, SMD 1206; Manufacturer: Sunlord; Manufacturer Part Number: PZ3216D501-2R0TF; Package Size: 1206; JLCPCB Basic Part: No; JLCPCB Part Number: C317633; Supplier 1: LCSC; Category: Ferrite Beads; Supplier Part Number 1: C317633; Tolerance: ±25%; Rated Current: 2000mA; DC Resistance: 0.07Ω; RoHS: Yes; ComponentLink1Description: Datasheet; ComponentLink1URL: https://wmsc.lcsc.com/wmsc/upload/file/pdf/v2/lcsc/2310301641_Sunlord-PZ3216D501-2R0TF_C317633.pdf; ComponentLink2Description: JLCPCB Part URL; ComponentLink2URL: https://jlcpcb.com/partdetail/C317633; ComponentLink3Description: LCSC Part URL; ComponentLink3URL: https://lcsc.com/product-detail/Ferrite-Beads_Sunlord-Sunlord-PZ3216D501-2R0TF_C317633.html
footprint FB-1206 (1206 (3216M) Ferrite)
pins: 1, 2

## PZ3216D600-3R0TF
designator FB?  Impedance @ Frequency: 60Ω@100MHz
Ferrite, 60Ω@100MHz, ±25%, 3A, SMD 1206; Manufacturer: Sunlord; Manufacturer Part Number: PZ3216D600-3R0TF; Package Size: 1206; JLCPCB Basic Part: No; JLCPCB Part Number: C370091; Supplier 1: LCSC; Category: Ferrite Beads; Supplier Part Number 1: C370091; Tolerance: ±25%; Rated Current: 3A; RoHS: Yes; ComponentLink1Description: Datasheet; ComponentLink1URL: https://wmsc.lcsc.com/wmsc/upload/file/pdf/v2/lcsc/2310301641_Sunlord-PZ3216D600-3R0TF_C370091.pdf; ComponentLink2Description: JLCPCB Part URL; ComponentLink2URL: https://jlcpcb.com/partdetail/C370091; ComponentLink3Description: LCSC Part URL; ComponentLink3URL: https://lcsc.com/product-detail/Ferrite-Beads_Sunlord-Sunlord-PZ3216D600-3R0TF_C370091.html
pins: 1, 2

## PZ3216D600-4R0TF
designator FB?  Impedance @ Frequency: 60Ω@100MHz
Ferrite, 60Ω@100MHz, ±25%, 0.02Ω, 4000mA, SMD 1206; Manufacturer: Sunlord; Manufacturer Part Number: PZ3216D600-4R0TF; Package Size: 1206; JLCPCB Basic Part: No; JLCPCB Part Number: C317632; Supplier 1: LCSC; Category: Ferrite Beads; Supplier Part Number 1: C317632; Tolerance: ±25%; Rated Current: 4000mA; DC Resistance: 0.02Ω; RoHS: Yes; ComponentLink1Description: Datasheet; ComponentLink1URL: https://wmsc.lcsc.com/wmsc/upload/file/pdf/v2/lcsc/2310301641_Sunlord-PZ3216D600-4R0TF_C317632.pdf; ComponentLink2Description: JLCPCB Part URL; ComponentLink2URL: https://jlcpcb.com/partdetail/C317632; ComponentLink3Description: LCSC Part URL; ComponentLink3URL: https://lcsc.com/product-detail/Ferrite-Beads_Sunlord-Sunlord-PZ3216D600-4R0TF_C317632.html
footprint FB-1206 (1206 (3216M) Ferrite)
pins: 1, 2

## PZ3216D600-4R0TFB01
designator FB?  Impedance @ Frequency: 60Ω@100MHz
Ferrite, 60Ω@100MHz, ±25%, 4A, SMD 1206; Manufacturer: Sunlord; Manufacturer Part Number: PZ3216D600-4R0TFB01; Package Size: 1206; JLCPCB Basic Part: No; JLCPCB Part Number: C882634; Supplier 1: LCSC; Category: Ferrite Beads; Supplier Part Number 1: C882634; Tolerance: ±25%; Rated Current: 4A; RoHS: Yes; ComponentLink1Description: Datasheet; ComponentLink1URL: https://wmsc.lcsc.com/wmsc/upload/file/pdf/v2/lcsc/2310301641_Sunlord-PZ3216D600-4R0TFB01_C882634.pdf; ComponentLink2Description: JLCPCB Part URL; ComponentLink2URL: https://jlcpcb.com/partdetail/C882634; ComponentLink3Description: LCSC Part URL; ComponentLink3URL: https://lcsc.com/product-detail/Ferrite-Beads_Sunlord-Sunlord-PZ3216D600-4R0TFB01_C882634.html
pins: 1, 2

## PZ3216D601-1R5TF
designator FB?  Impedance @ Frequency: 600Ω@100MHz
Ferrite, 600Ω@100MHz, ±25%, 1.5A, SMD 1206; Manufacturer: Sunlord; Manufacturer Part Number: PZ3216D601-1R5TF; Package Size: 1206; JLCPCB Basic Part: No; JLCPCB Part Number: C370092; Supplier 1: LCSC; Category: Ferrite Beads; Supplier Part Number 1: C370092; Tolerance: ±25%; Rated Current: 1.5A; RoHS: Yes; ComponentLink1Description: Datasheet; ComponentLink1URL: https://wmsc.lcsc.com/wmsc/upload/file/pdf/v2/lcsc/2310301641_Sunlord-PZ3216D601-1R5TF_C370092.pdf; ComponentLink2Description: JLCPCB Part URL; ComponentLink2URL: https://jlcpcb.com/partdetail/C370092; ComponentLink3Description: LCSC Part URL; ComponentLink3URL: https://lcsc.com/product-detail/Ferrite-Beads_Sunlord-Sunlord-PZ3216D601-1R5TF_C370092.html
pins: 1, 2

## PZ3216D601-2R0TF
designator FB?  Impedance @ Frequency: 600Ω@100MHz
Ferrite, 600Ω@100MHz, ±25%, 0.07Ω, 2000mA, SMD 1206; Manufacturer: Sunlord; Manufacturer Part Number: PZ3216D601-2R0TF; Package Size: 1206; JLCPCB Basic Part: No; JLCPCB Part Number: C317634; Supplier 1: LCSC; Category: Ferrite Beads; Supplier Part Number 1: C317634; Tolerance: ±25%; Rated Current: 2000mA; DC Resistance: 0.07Ω; RoHS: Yes; ComponentLink1Description: Datasheet; ComponentLink1URL: https://wmsc.lcsc.com/wmsc/upload/file/pdf/v2/lcsc/2310301641_Sunlord-PZ3216D601-2R0TF_C317634.pdf; ComponentLink2Description: JLCPCB Part URL; ComponentLink2URL: https://jlcpcb.com/partdetail/C317634; ComponentLink3Description: LCSC Part URL; ComponentLink3URL: https://lcsc.com/product-detail/Ferrite-Beads_Sunlord-Sunlord-PZ3216D601-2R0TF_C317634.html
footprint FB-1206 (1206 (3216M) Ferrite)
pins: 1, 2

## PZ3216U102-R50TF
designator FB?  Impedance @ Frequency: 1000Ω@100MHz
Ferrite, 1000Ω@100MHz, ±25%, 0.3Ω, 500mA, SMD 1206; Manufacturer: Sunlord; Manufacturer Part Number: PZ3216U102-R50TF; Package Size: 1206; JLCPCB Basic Part: No; JLCPCB Part Number: C370094; Supplier 1: LCSC; Category: Ferrite Beads; Supplier Part Number 1: C370094; Tolerance: ±25%; Rated Current: 500mA; DC Resistance: 0.3Ω; RoHS: Yes; ComponentLink1Description: Datasheet; ComponentLink1URL: https://wmsc.lcsc.com/wmsc/upload/file/pdf/v2/lcsc/2310301641_Sunlord-PZ3216U102-R50TF_C370094.pdf; ComponentLink2Description: JLCPCB Part URL; ComponentLink2URL: https://jlcpcb.com/partdetail/C370094; ComponentLink3Description: LCSC Part URL; ComponentLink3URL: https://lcsc.com/product-detail/Ferrite-Beads_Sunlord-Sunlord-PZ3216U102-R50TF_C370094.html
footprint FB-1206 (1206 (3216M) Ferrite)
pins: 1, 2

## PZ3216U121-2R0TF
designator FB?  Impedance @ Frequency: 120Ω@100MHz
Ferrite, 120Ω@100MHz, ±25%, 2A, SMD 1206; Manufacturer: Sunlord; Manufacturer Part Number: PZ3216U121-2R0TF; Package Size: 1206; JLCPCB Basic Part: No; JLCPCB Part Number: C279921; Supplier 1: LCSC; Category: Ferrite Beads; Supplier Part Number 1: C279921; Tolerance: ±25%; Rated Current: 2A; RoHS: Yes; ComponentLink1Description: Datasheet; ComponentLink1URL: https://wmsc.lcsc.com/wmsc/upload/file/pdf/v2/lcsc/2310301641_Sunlord-PZ3216U121-2R0TF_C279921.pdf; ComponentLink2Description: JLCPCB Part URL; ComponentLink2URL: https://jlcpcb.com/partdetail/C279921; ComponentLink3Description: LCSC Part URL; ComponentLink3URL: https://lcsc.com/product-detail/Ferrite-Beads_Sunlord-Sunlord-PZ3216U121-2R0TF_C279921.html
pins: 1, 2

## PZ3216U121-3R0TF
designator FB?  Impedance @ Frequency: 120Ω@100MHz
Ferrite, 120Ω@100MHz, ±25%, 0.03Ω, 3000mA, SMD 1206; Manufacturer: Sunlord; Manufacturer Part Number: PZ3216U121-3R0TF; Package Size: 1206; JLCPCB Basic Part: No; JLCPCB Part Number: C98293; Supplier 1: LCSC; Category: Ferrite Beads; Supplier Part Number 1: C98293; Tolerance: ±25%; Rated Current: 3000mA; DC Resistance: 0.03Ω; RoHS: Yes; ComponentLink1Description: Datasheet; ComponentLink1URL: https://wmsc.lcsc.com/wmsc/upload/file/pdf/v2/lcsc/2310301641_Sunlord-PZ3216U121-3R0TF_C98293.pdf; ComponentLink2Description: JLCPCB Part URL; ComponentLink2URL: https://jlcpcb.com/partdetail/C98293; ComponentLink3Description: LCSC Part URL; ComponentLink3URL: https://lcsc.com/product-detail/Ferrite-Beads_Sunlord-Sunlord-PZ3216U121-3R0TF_C98293.html
footprint FB-1206 (1206 (3216M) Ferrite)
pins: 1, 2

## PZ3216U121-3R5TF
designator FB?  Impedance @ Frequency: 120Ω@100MHz
Ferrite, 120Ω@100MHz, ±25%, 3.5A, SMD 1206; Manufacturer: Sunlord; Manufacturer Part Number: PZ3216U121-3R5TF; Package Size: 1206; JLCPCB Basic Part: No; JLCPCB Part Number: C370095; Supplier 1: LCSC; Category: Ferrite Beads; Supplier Part Number 1: C370095; Tolerance: ±25%; Rated Current: 3.5A; RoHS: Yes; ComponentLink1Description: Datasheet; ComponentLink2Description: JLCPCB Part URL; ComponentLink2URL: https://jlcpcb.com/partdetail/C370095; ComponentLink3Description: LCSC Part URL; ComponentLink3URL: https://lcsc.com/product-detail/Ferrite-Beads_Sunlord-Sunlord-PZ3216U121-3R5TF_C370095.html
pins: 1, 2

## PZ3216U221-2R0TF
designator FB?  Impedance @ Frequency: 220Ω@100MHz
Ferrite, 220Ω@100MHz, ±25%, 0.08Ω, 2000mA, SMD 1206; Manufacturer: Sunlord; Manufacturer Part Number: PZ3216U221-2R0TF; Package Size: 1206; JLCPCB Basic Part: No; JLCPCB Part Number: C370096; Supplier 1: LCSC; Category: Ferrite Beads; Supplier Part Number 1: C370096; Tolerance: ±25%; Rated Current: 2000mA; DC Resistance: 0.08Ω; RoHS: Yes; ComponentLink1Description: Datasheet; ComponentLink1URL: https://wmsc.lcsc.com/wmsc/upload/file/pdf/v2/lcsc/2310301641_Sunlord-PZ3216U221-2R0TF_C370096.pdf; ComponentLink2Description: JLCPCB Part URL; ComponentLink2URL: https://jlcpcb.com/partdetail/C370096; ComponentLink3Description: LCSC Part URL; ComponentLink3URL: https://lcsc.com/product-detail/Ferrite-Beads_Sunlord-Sunlord-PZ3216U221-2R0TF_C370096.html
footprint FB-1206 (1206 (3216M) Ferrite)
pins: 1, 2

## PZ3216U300-6R0TF
designator FB?  Impedance @ Frequency: 30Ω@100MHz
Ferrite, 30Ω@100MHz, ±25%, 0.01Ω, 6000mA, SMD 1206; Manufacturer: Sunlord; Manufacturer Part Number: PZ3216U300-6R0TF; Package Size: 1206; JLCPCB Basic Part: No; JLCPCB Part Number: C316417; Supplier 1: LCSC; Category: Ferrite Beads; Supplier Part Number 1: C316417; Tolerance: ±25%; Rated Current: 6000mA; DC Resistance: 0.01Ω; RoHS: Yes; ComponentLink1Description: Datasheet; ComponentLink1URL: https://wmsc.lcsc.com/wmsc/upload/file/pdf/v2/lcsc/2310301641_Sunlord-PZ3216U300-6R0TF_C316417.pdf; ComponentLink2Description: JLCPCB Part URL; ComponentLink2URL: https://jlcpcb.com/partdetail/C316417; ComponentLink3Description: LCSC Part URL; ComponentLink3URL: https://lcsc.com/product-detail/Ferrite-Beads_Sunlord-Sunlord-PZ3216U300-6R0TF_C316417.html
footprint FB-1206 (1206 (3216M) Ferrite)
pins: 1, 2

## PZ3216U301-2R0TF
designator FB?  Impedance @ Frequency: 300Ω@100MHz
Ferrite, 300Ω@100MHz, ±25%, 0.1Ω, 2000mA, SMD 1206; Manufacturer: Sunlord; Manufacturer Part Number: PZ3216U301-2R0TF; Package Size: 1206; JLCPCB Basic Part: No; JLCPCB Part Number: C98294; Supplier 1: LCSC; Category: Ferrite Beads; Supplier Part Number 1: C98294; Tolerance: ±25%; Rated Current: 2000mA; DC Resistance: 0.1Ω; RoHS: Yes; ComponentLink1Description: Datasheet; ComponentLink1URL: https://wmsc.lcsc.com/wmsc/upload/file/pdf/v2/lcsc/2310301641_Sunlord-PZ3216U301-2R0TF_C98294.pdf; ComponentLink2Description: JLCPCB Part URL; ComponentLink2URL: https://jlcpcb.com/partdetail/C98294; ComponentLink3Description: LCSC Part URL; ComponentLink3URL: https://lcsc.com/product-detail/Ferrite-Beads_Sunlord-Sunlord-PZ3216U301-2R0TF_C98294.html
footprint FB-1206 (1206 (3216M) Ferrite)
pins: 1, 2

## PZ3216U330-4R0TF
designator FB?  Impedance @ Frequency: 33Ω@100MHz
Ferrite, 33Ω@100MHz, ±25%, 4A, SMD 1206; Manufacturer: Sunlord; Manufacturer Part Number: PZ3216U330-4R0TF; Package Size: 1206; JLCPCB Basic Part: No; JLCPCB Part Number: C370097; Supplier 1: LCSC; Category: Ferrite Beads; Supplier Part Number 1: C370097; Tolerance: ±25%; Rated Current: 4A; RoHS: Yes; ComponentLink1Description: Datasheet; ComponentLink1URL: https://wmsc.lcsc.com/wmsc/upload/file/pdf/v2/lcsc/2310301641_Sunlord-PZ3216U330-4R0TF_C370097.pdf; ComponentLink2Description: JLCPCB Part URL; ComponentLink2URL: https://jlcpcb.com/partdetail/C370097; ComponentLink3Description: LCSC Part URL; ComponentLink3URL: https://lcsc.com/product-detail/Ferrite-Beads_Sunlord-Sunlord-PZ3216U330-4R0TF_C370097.html
pins: 1, 2

## PZ3216U391-2R0TF
designator FB?  Impedance @ Frequency: 390Ω@100MHz
Ferrite, 390Ω@100MHz, ±25%, 0.07Ω, 2000mA, SMD 1206; Manufacturer: Sunlord; Manufacturer Part Number: PZ3216U391-2R0TF; Package Size: 1206; JLCPCB Basic Part: No; JLCPCB Part Number: C98295; Supplier 1: LCSC; Category: Ferrite Beads; Supplier Part Number 1: C98295; Tolerance: ±25%; Rated Current: 2000mA; DC Resistance: 0.07Ω; RoHS: Yes; ComponentLink1Description: Datasheet; ComponentLink1URL: https://wmsc.lcsc.com/wmsc/upload/file/pdf/v2/lcsc/2310301641_Sunlord-PZ3216U391-2R0TF_C98295.pdf; ComponentLink2Description: JLCPCB Part URL; ComponentLink2URL: https://jlcpcb.com/partdetail/C98295; ComponentLink3Description: LCSC Part URL; ComponentLink3URL: https://lcsc.com/product-detail/Ferrite-Beads_Sunlord-Sunlord-PZ3216U391-2R0TF_C98295.html
footprint FB-1206 (1206 (3216M) Ferrite)
pins: 1, 2

## PZ3216U600-3R0TF
designator FB?  Impedance @ Frequency: 60Ω@100MHz
Ferrite, 60Ω@100MHz, ±25%, 3A, SMD 1206; Manufacturer: Sunlord; Manufacturer Part Number: PZ3216U600-3R0TF; Package Size: 1206; JLCPCB Basic Part: No; JLCPCB Part Number: C370098; Supplier 1: LCSC; Category: Ferrite Beads; Supplier Part Number 1: C370098; Tolerance: ±25%; Rated Current: 3A; RoHS: Yes; ComponentLink1Description: Datasheet; ComponentLink1URL: https://wmsc.lcsc.com/wmsc/upload/file/pdf/v2/lcsc/2310301641_Sunlord-PZ3216U600-3R0TF_C370098.pdf; ComponentLink2Description: JLCPCB Part URL; ComponentLink2URL: https://jlcpcb.com/partdetail/C370098; ComponentLink3Description: LCSC Part URL; ComponentLink3URL: https://lcsc.com/product-detail/Ferrite-Beads_Sunlord-Sunlord-PZ3216U600-3R0TF_C370098.html
pins: 1, 2

## PZ3216U600-4R0TF
designator FB?  Impedance @ Frequency: 60Ω@100MHz
Ferrite, 60Ω@100MHz, ±25%, 0.025Ω, 4000mA, SMD 1206; Manufacturer: Sunlord; Manufacturer Part Number: PZ3216U600-4R0TF; Package Size: 1206; JLCPCB Basic Part: No; JLCPCB Part Number: C370099; Supplier 1: LCSC; Category: Ferrite Beads; Supplier Part Number 1: C370099; Tolerance: ±25%; Rated Current: 4000mA; DC Resistance: 0.025Ω; RoHS: Yes; ComponentLink1Description: Datasheet; ComponentLink1URL: https://wmsc.lcsc.com/wmsc/upload/file/pdf/v2/lcsc/2310301641_Sunlord-PZ3216U600-4R0TF_C370099.pdf; ComponentLink2Description: JLCPCB Part URL; ComponentLink2URL: https://jlcpcb.com/partdetail/C370099; ComponentLink3Description: LCSC Part URL; ComponentLink3URL: https://lcsc.com/product-detail/Ferrite-Beads_Sunlord-Sunlord-PZ3216U600-4R0TF_C370099.html
footprint FB-1206 (1206 (3216M) Ferrite)
pins: 1, 2

## PZ3216U601-1R5TF
designator FB?  Impedance @ Frequency: 600Ω@100MHz
Ferrite, 600Ω@100MHz, ±25%, 0.1Ω, 1500mA, SMD 1206; Manufacturer: Sunlord; Manufacturer Part Number: PZ3216U601-1R5TF; Package Size: 1206; JLCPCB Basic Part: No; JLCPCB Part Number: C370100; Supplier 1: LCSC; Category: Ferrite Beads; Supplier Part Number 1: C370100; Tolerance: ±25%; Rated Current: 1500mA; DC Resistance: 0.1Ω; RoHS: Yes; ComponentLink1Description: Datasheet; ComponentLink1URL: https://wmsc.lcsc.com/wmsc/upload/file/pdf/v2/lcsc/2310301641_Sunlord-PZ3216U601-1R5TF_C370100.pdf; ComponentLink2Description: JLCPCB Part URL; ComponentLink2URL: https://jlcpcb.com/partdetail/C370100; ComponentLink3Description: LCSC Part URL; ComponentLink3URL: https://lcsc.com/product-detail/Ferrite-Beads_Sunlord-Sunlord-PZ3216U601-1R5TF_C370100.html
footprint FB-1206 (1206 (3216M) Ferrite)
pins: 1, 2

## PZ3216U601-2R0TF
designator FB?  Impedance @ Frequency: 600Ω@100MHz
Ferrite, 600Ω@100MHz, ±25%, 2A, SMD 1206; Manufacturer: Sunlord; Manufacturer Part Number: PZ3216U601-2R0TF; Package Size: 1206; JLCPCB Basic Part: No; JLCPCB Part Number: C370101; Supplier 1: LCSC; Category: Ferrite Beads; Supplier Part Number 1: C370101; Tolerance: ±25%; Rated Current: 2A; RoHS: Yes; ComponentLink1Description: Datasheet; ComponentLink1URL: https://wmsc.lcsc.com/wmsc/upload/file/pdf/v2/lcsc/2310301641_Sunlord-PZ3216U601-2R0TF_C370101.pdf; ComponentLink2Description: JLCPCB Part URL; ComponentLink2URL: https://jlcpcb.com/partdetail/C370101; ComponentLink3Description: LCSC Part URL; ComponentLink3URL: https://lcsc.com/product-detail/Ferrite-Beads_Sunlord-Sunlord-PZ3216U601-2R0TF_C370101.html
pins: 1, 2

## PZ3216U601-2R5TF
designator FB?  Impedance @ Frequency: 600Ω@100MHz
Ferrite, 600Ω@100MHz, ±25%, 2.5A, SMD 1206; Manufacturer: Sunlord; Manufacturer Part Number: PZ3216U601-2R5TF; Package Size: 1206; JLCPCB Basic Part: No; JLCPCB Part Number: C370102; Supplier 1: LCSC; Category: Ferrite Beads; Supplier Part Number 1: C370102; Tolerance: ±25%; Rated Current: 2.5A; RoHS: Yes; ComponentLink1Description: Datasheet; ComponentLink1URL: https://wmsc.lcsc.com/wmsc/upload/file/pdf/v2/lcsc/2310301641_Sunlord-PZ3216U601-2R5TF_C370102.pdf; ComponentLink2Description: JLCPCB Part URL; ComponentLink2URL: https://jlcpcb.com/partdetail/C370102; ComponentLink3Description: LCSC Part URL; ComponentLink3URL: https://lcsc.com/product-detail/Ferrite-Beads_Sunlord-Sunlord-PZ3216U601-2R5TF_C370102.html
pins: 1, 2

## SBH3216S102LSP
designator FB?  Impedance @ Frequency: 1kΩ@100MHz
Ferrite, 1kΩ@100MHz, ±25%, 300mΩ, 1A, SMD 1206; Manufacturer: Sunltech Tech; Manufacturer Part Number: SBH3216S102LSP; Package Size: 1206; JLCPCB Basic Part: No; JLCPCB Part Number: C908354; Supplier 1: LCSC; Category: Ferrite Beads; Supplier Part Number 1: C908354; Tolerance: ±25%; Rated Current: 1A; DC Resistance: 300mΩ; RoHS: Yes; ComponentLink1Description: Datasheet; ComponentLink1URL: https://wmsc.lcsc.com/wmsc/upload/file/pdf/v2/lcsc/2010261207_Sunltech-Tech-SBH3216S102LSP_C908354.pdf; ComponentLink2Description: JLCPCB Part URL; ComponentLink2URL: https://jlcpcb.com/partdetail/C908354; ComponentLink3Description: LCSC Part URL; ComponentLink3URL: https://lcsc.com/product-detail/Ferrite-Beads_Sunltech-Tech-Sunltech-Tech-SBH3216S102LSP_C908354.html
footprint FB-1206 (1206 (3216M) Ferrite)
pins: 1, 2